# Altium schematic symbol library 3.97inch_LCD_Schematic_Package_Library.SCHLIB: 1 symbol
Pins are listed as number, name and electrical type; pins without a type are passive.

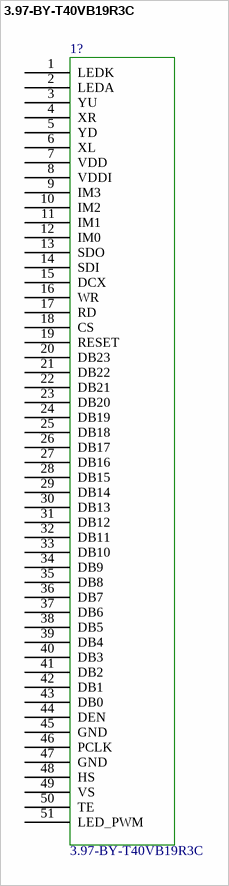
[diagram p0: symbol 3.97-BY-T40VB19R3C]

## 3.97-BY-T40VB19R3C
designator 1?
footprint 3.97-BY-T40VB19R3C
pins: 1 LEDK, 2 LEDA, 3 YU, 4 XR, 5 YD, 6 XL, 7 VDD, 8 VDDI, 9 IM3, 10 IM2, 11 IM1, 12 IM0, 13 SDO, 14 SDI, 15 DCX, 16 WR, 17 RD, 18 CS, 19 RESET, 20 DB23, 21 DB22, 22 DB21, 23 DB20, 24 DB19, 25 DB18, 26 DB17, 27 DB16, 28 DB15, 29 DB14, 30 DB13, 31 DB12, 32 DB11, 33 DB10, 34 DB9, 35 DB8, 36 DB7, 37 DB6, 38 DB5, 39 DB4, 40 DB3, 41 DB2, 42 DB1, 43 DB0, 44 DEN, 45 GND, 46 PCLK, 47 GND, 48 HS, 49 VS, 50 TE, 51 LED_PWM